# EAGLE library part R1SE-0505 (library R1SE-0505)
RECOM R1SE-0505 MPN: R1SE-0505-R Designed by AKstudios github.com/AKstudios
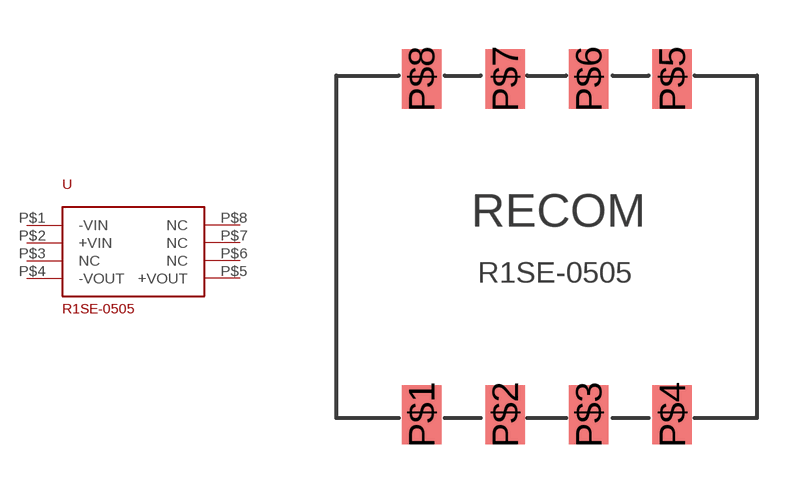
[diagram p0: symbol with the pads of R1SE-0505; footprint R1SE-0505]

Designator prefix -

## R1SE-0505  [R1SE-0505]
P$1  -VIN
P$2  +VIN
P$3  NC
P$4  -VOUT
P$5  +VOUT
P$6  NC
P$7  NC
P$8  NC

## Footprint R1SE-0505 (pad centres in mm)
smd 1.2 x 1.8: P$1 0.6,0; P$2 3.14,0; P$3 5.68,0; P$4 8.22,0; P$5 8.22,10.2; P$6 5.68,10.2; P$7 3.14,10.2; P$8 0.6,10.2